# Altium footprint library ESP32C6_Xbee.PcbLib: 14 footprints
Each footprint in its own frame and in the unit in brackets; x right, y up, seen from the top. Pads: shape width x height; smd on the part's side, far side on the other; paste and mask are expansions set on the pad; w line width, h text height; cw(c..) or ccw(c..) is an arc to the next point about the centre after c.
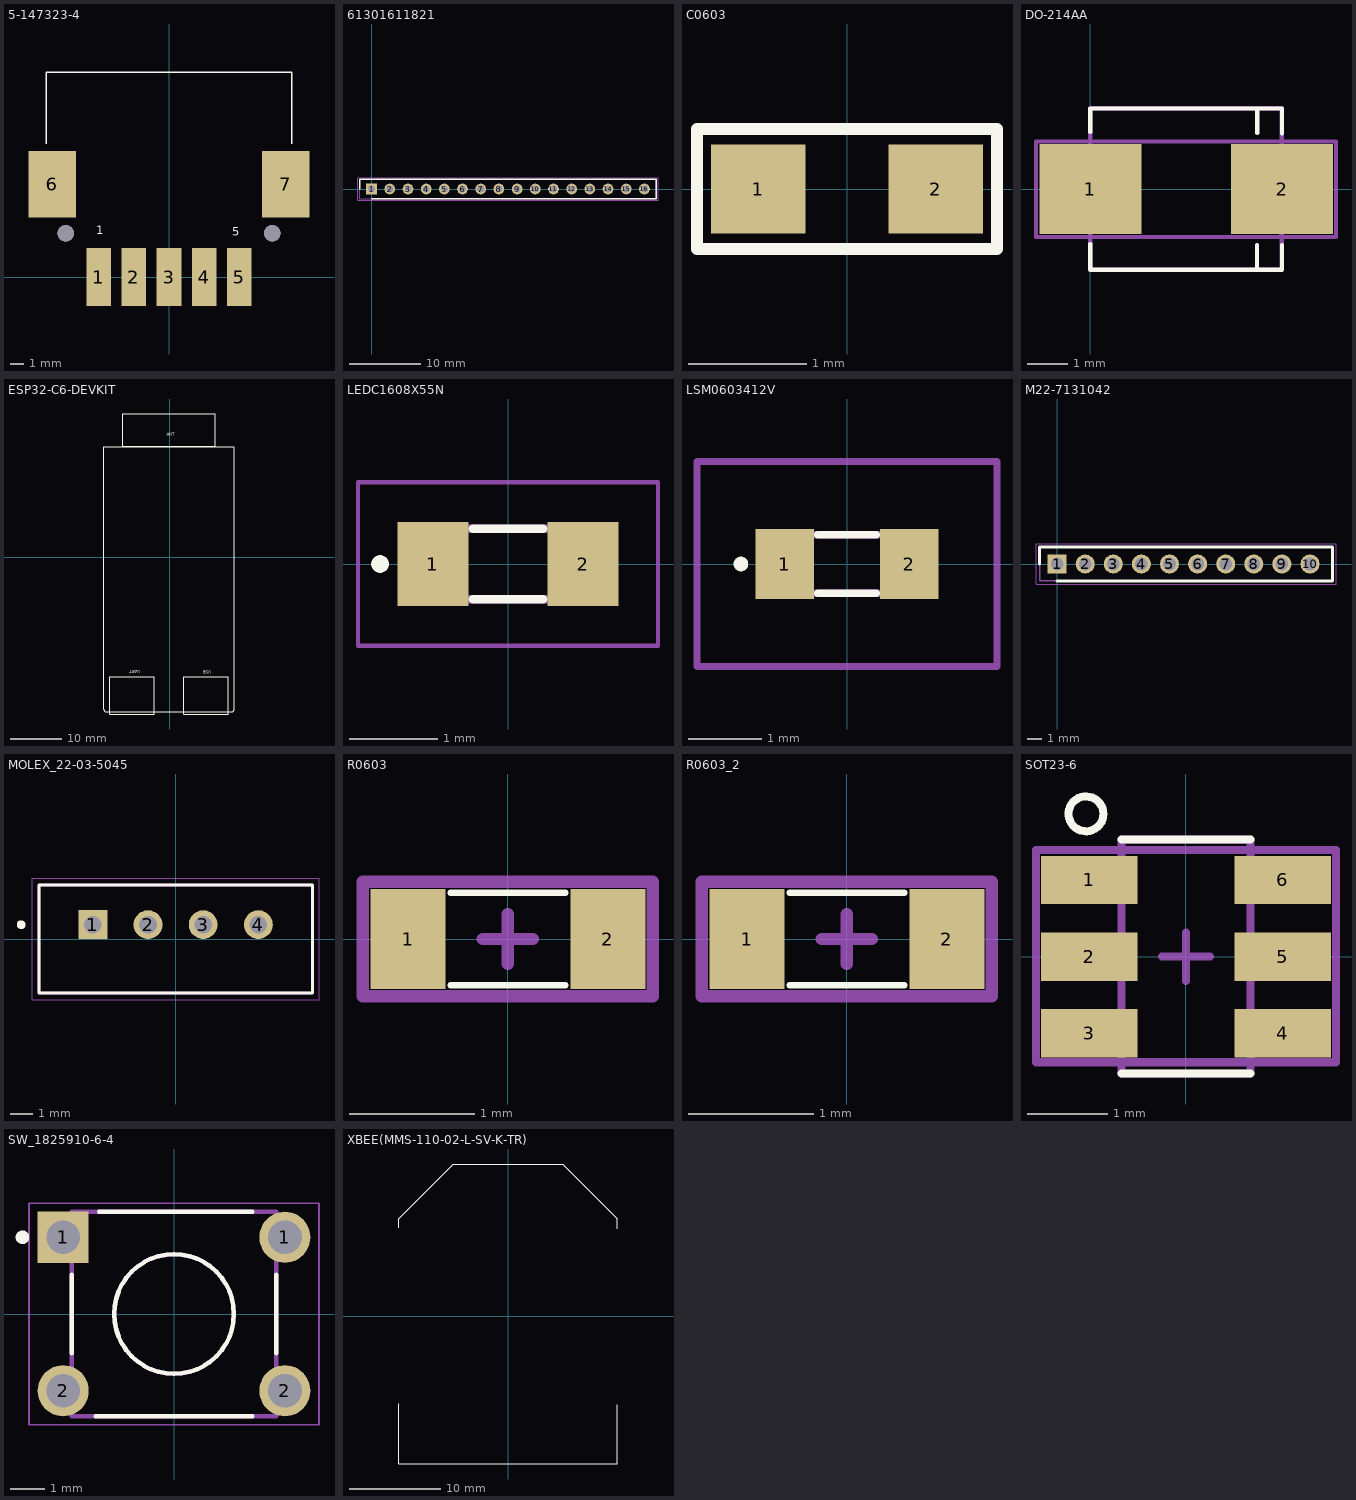
[diagram p0: the footprints below, top view; thin cyan lines are the x and y axes]

## 5-147323-4 [mm]
pads (7):
  rect 1.78x4.19 smd: 1(-5.08,0) 2(-2.54,0) 3(0,0) 4(2.54,0) 5(5.08,0)
  rect 3.45x4.83 smd: 6(-8.46,6.73) 7(8.46,6.73)
via -7.495,3.17 diameter 1.2 hole 1.2
via 7.495,3.17 diameter 1.2 hole 1.2
Top Overlay:
  lines w0.1: -8.89,9.68 -8.89,14.86 8.89,14.86 8.89,9.68
  text "1" at -5.27,3.11 h0.6
  text "5" at 4.57,3.01 h0.6
3D body "5-147323-4-h-3d.stp": height 7.36, standoff -0.99, extent -9.233,-1.84 9.233,14.8

## 61301611821 [mm]
height 2.8
pads (16):
  rect 1.5x1.5 hole 1: 1(0,0)
  round 1.5 hole 1: 2(2.54,0) 3(5.08,0) 4(7.62,0) 5(10.16,0) 6(12.7,0) 7(15.24,0) 8(17.78,0) 9(20.32,0) 10(22.86,0) 11(25.4,0) 12(27.94,0) 13(30.48,0) 14(33.02,0) 15(35.56,0) 16(38.1,0)
Top Overlay:
  lines w0.2: -1.645,0 -1.645,1.35 39.745,1.35 39.745,-1.35 0,-1.35
Mechanical 15:
  lines w0.1: -1.645,-1.35 39.745,-1.35 39.745,1.35 -1.645,1.35 -1.645,-1.35
Mechanical 16:
  lines w0.05: -1.895,-1.6 39.995,-1.6 39.995,1.6 -1.895,1.6 -1.895,-1.6
3D body "61301611821.stp": height 8.65, standoff -3.25, extent -1.52,-1.25 39.62,1.25

## C0603 [mm] "CAPACITOR SMD 0603"
height 0.9
pads (2):
  rect 0.8x0.75 smd: 1(-0.75,0) 2(0.75,0)
Top Overlay:
  lines w0.1: -1.27,-0.508 -1.27,0.508 1.27,0.508 1.27,-0.508 -1.27,-0.508
3D body "User Library-0603(1608M) Cap.STEP": height 0.79, standoff 0, extent -1,-0.394 1,0.394

## DO-214AA [mm]
pads (2):
  rect 2.5x2.2 smd mask+0: 1(0,0) 2(4.7,0)
Top Overlay:
  lines w0.1: 0,-1.35 0,-1.975 4.7,-1.975 4.7,-1.37 ; 0,1.4 0,1.975 4.7,1.975 4.7,1.36 ; 4.08,-1.975 4.08,-1.37 ; 4.09,1.37 4.09,1.93
Mechanical 13:
  lines w0.1: -0.01,1.98 4.69,1.98 4.69,-1.97 0,-1.97 0,1.97
Mechanical 15:
  lines w0.1: -1.33,-1.17 6.02,-1.17 6.02,1.17 -1.33,1.17 -1.33,-1.17
3D body "User Library-DO-214AA_SMB.STEP": height 2.2, standoff -0.05, extent -0.3,-1.85 5,1.85

## ESP32-C6-DEVKIT [mm]
Top Overlay:
  lines w0.102: -11.633,-30.623 -2.983,-30.623 -2.983,-23.323 -11.633,-23.323 -11.633,-30.623 ; -9.099,21.624 -9.099,27.924 8.901,27.924 8.901,21.624 -9.099,21.624 ; 2.767,-30.623 2.767,-23.323 11.417,-23.323 11.417,-30.623 2.767,-30.623
  lines w0.127: -12.808,-29.723 ccw(c-12.308,-29.723) -12.308,-30.223 12.092,-30.223 ccw(c12.092,-29.723) 12.592,-29.723 12.592,21.577 -12.808,21.577 -12.808,-29.723
  text "ANT" at -0.5,23.5 h1
  text "USB" at 8.1,-22.011 h1
  text "UART" at -5.7,-21.911 h1

## LEDC1608X55N [mm]
height 2.8
pads (2):
  rect 0.8x0.95 smd: 1(-0.85,0) 2(0.85,0)
Top Overlay:
  lines w0.1: -0.4,-0.4 0.4,-0.4 ; -0.4,0.4 0.4,0.4 ; -1.5,0 ccw(c-1.45,0) -1.4,0 ccw(c-1.45,0) -1.5,0
Mechanical 15:
  lines w0.1: -0.8,0.133 -0.533,0.4 ; -0.8,-0.4 0.8,-0.4 0.8,0.4 -0.8,0.4 -0.8,-0.4
Mechanical 16:
  lines w0.05: -1.7,-0.925 1.7,-0.925 1.7,0.925 -1.7,0.925 -1.7,-0.925
3D body "LSM0603453V.stp": height 0.55, standoff -0.03, extent -0.8,-0.4 0.8,0.4

## LSM0603412V [mm]
height 2.8
pads (2):
  rect 0.8x0.95 smd: 1(-0.85,0) 2(0.85,0)
Top Overlay:
  lines w0.1: -0.4,-0.4 0.4,-0.4 ; -0.4,0.4 0.4,0.4 ; -1.5,0 ccw(c-1.45,0) -1.4,0 ccw(c-1.45,0) -1.5,0
Mechanical 15:
  lines w0.1: -0.8,0.133 -0.533,0.4 ; -0.8,-0.4 -0.8,0.4 0.8,0.4 0.8,-0.4 -0.8,-0.4
Mechanical 16:
  lines w0.1: -2.05,-1.4 -2.05,1.4 2.05,1.4 2.05,-1.4 -2.05,-1.4
3D body "LSM0603412V.stp": height 0.55, standoff -0.03, extent -0.798,-0.401 0.802,0.399

## M22-7131042 [mm]
height 2.8
pads (10):
  rect 1.35x1.35 hole 0.9: 1(0,0)
  round 1.35 hole 0.9: 2(2,0) 3(4,0) 4(6,0) 5(8,0) 6(10,0) 7(12,0) 8(14,0) 9(16,0) 10(18,0)
Top Overlay:
  lines w0.2: -1.25,0 -1.25,1.2 19.6,1.2 19.6,-1.2 0,-1.2
Mechanical 15:
  lines w0.1: -1.25,-1.2 19.6,-1.2 19.6,1.2 -1.25,1.2 -1.25,-1.2
Mechanical 16:
  lines w0.05: -1.5,-1.45 19.85,-1.45 19.85,1.45 -1.5,1.45 -1.5,-1.45
3D body "M22-7131042.stp": height 4.4, standoff -2.6, extent -1.25,-1.2 19.25,1.2

## MOLEX_22-03-5045 [mm]
pads (4):
  rect 1.308x1.308 hole 0.8: 1(-3.75,0.65)
  round 1.308 hole 0.8: 2(-1.25,0.65) 3(1.25,0.65) 4(3.75,0.65)
Top Overlay:
  circle w0.2: c-7,0.65 r0.1
  lines w0.127: -6.2,-2.45 -6.2,2.45 6.2,2.45 6.2,-2.45 -6.2,-2.45
Mechanical 13:
  circle w0.2: c-3.75,0.65 r0.1
  lines w0.127: -6.2,-2.45 6.2,-2.45 6.2,2.45 -6.2,2.45 -6.2,-2.45
Mechanical 15:
  lines w0.05: -6.5,-2.75 6.5,-2.75 6.5,2.75 -6.5,2.75 -6.5,-2.75
3D body "22-03-5045.stp": height 6.05, standoff -3.35, extent -6.2,-2.47 6.2,2.43

## R0603 [mm]
height 2.8
pads (2):
  rect 0.6x0.8 smd mask+0.05: 1(-0.8,0) 2(0.8,0)
Top Overlay:
  lines w0.05: -0.46,-0.37 0.46,-0.37 ; -0.46,0.37 0.46,0.37
Mechanical 15:
  lines w0.1: -0.2,0 0.2,0 ; 0,-0.2 0,0.2 ; -1.16,-0.46 -1.16,0.46 1.16,0.46 1.16,-0.46 -1.16,-0.46
3D body "R0603.STEP": height 0.45, standoff 0, extent -0.8,-0.4 0.8,0.4

## R0603_2 [mm]
pads (2):
  rect 0.6x0.8 smd mask+0.05: 1(-0.8,0) 2(0.8,0)
Top Overlay:
  lines w0.05: -0.46,-0.37 0.46,-0.37 ; -0.46,0.37 0.46,0.37
Mechanical 15:
  lines w0.1: -0.2,0 0.2,0 ; 0,-0.2 0,0.2 ; -1.16,-0.46 -1.16,0.46 1.16,0.46 1.16,-0.46 -1.16,-0.46
3D body "R0603.STEP": height 0.45, standoff 0, extent -0.8,-0.4 0.8,0.4

## SOT23-6 [mm]
pads (6):
  rect 1.2x0.6 smd: 1(-1.2,0.95) 2(-1.2,0) 3(-1.2,-0.95) 4(1.2,-0.95) 5(1.2,0) 6(1.2,0.95)
Top Overlay:
  circle w0.1: c-1.24,1.77 r0.216
  lines w0.1: -0.8,-1.45 0.8,-1.45 ; -0.8,1.45 0.8,1.45
Mechanical 13:
  lines w0.1: -0.8,-1.45 0.8,-1.45 0.8,1.45 -0.8,1.45 -0.8,-1.45
Mechanical 15:
  lines w0.1: -0.3,0 0.3,0 ; 0,-0.3 0,0.3 ; -1.86,-1.31 1.86,-1.31 1.86,1.32 -1.86,1.32 -1.86,-1.31
3D body "SOT23-6-2.STEP": height 1.45, standoff 0, extent -1.4,-1.45 1.4,1.45

## SW_1825910-6-4 [mm]
height 2.8
pads (4):
  rect 1.498x1.498 hole 0.99: 1(-3.25,2.25)
  round 1.498 hole 0.99: 1(3.25,2.25) 2(-3.25,-2.25) 2(3.25,-2.25)
Top Overlay:
  circle w0.2: c-4.445,2.25 r0.1
  circle w0.127: c0,0 r1.755
  lines w0.127: -2.995,-1.15 -2.995,1.15 ; -2.3,-2.995 2.3,-2.995 ; -2.2,2.995 2.3,2.995 ; 3,-1.15 3,1.15
Mechanical 13:
  circle w0.127: c0,0 r1.755
  lines w0.127: -2.995,-2.995 2.995,-2.995 2.995,2.995 -2.995,2.995 -2.995,-2.995
Mechanical 15:
  lines w0.05: -4.25,-3.25 4.25,-3.25 4.25,3.25 -4.25,3.25 -4.25,-3.25
3D body "step_temp.STEP": height 5.01, standoff -3.51, extent -3.898,-2.995 3.9,2.995

## XBEE(MMS-110-02-L-SV-K-TR) [mm]
height 2.8
Top Overlay:
  lines w0.1: -12,-9.652 -12,-16.24 12,-16.24 12,-9.717 ; -12,9.714 -12,10.7 -6,16.7 6,16.7 12,10.7 12,9.587